# EAGLE library part CA3140MZ (library Intersil_By_element14_Batch_1)
4.5MHz, BiMOS Operational Amplifier with MOSFET Input/Bipolar Output
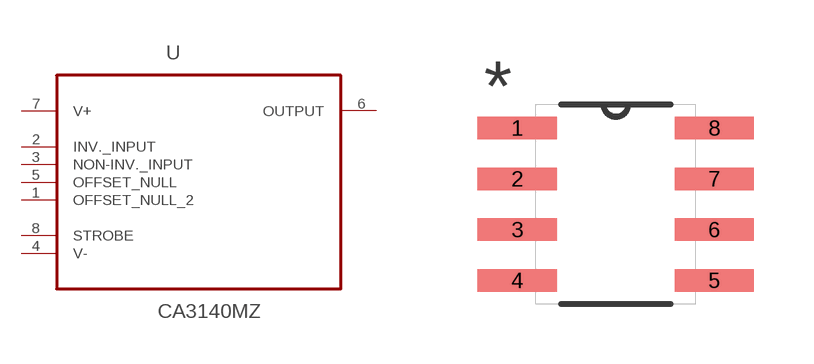
[diagram p10: symbol with the pads of SOIC127P600X175-8N; footprint SOIC127P600X175-8N]

Designator prefix U

## CA3140MZ (MPN: CA3140MZ; OC_FARNELL: 9663622; OC_NEWARK: 57K3024; PACKAGE: SOIC-8; SUPPLIER: INTERSIL)  [SOIC127P600X175-8N]
1  OFFSET_NULL_2  pas
2  INV._INPUT  in
3  NON-INV._INPUT  in
4  V-  pwr
5  OFFSET_NULL  pas
6  OUTPUT  out
7  V+  pwr
8  STROBE  in

## Footprint SOIC127P600X175-8N (pad centres in mm)
smd 1.981 x 0.559: 1 -2.464,1.905; 2 -2.464,0.635; 3 -2.464,-0.635; 4 -2.464,-1.905; 5 2.464,-1.905; 6 2.464,-0.635; 7 2.464,0.635; 8 2.464,1.905